# Altium footprint library e-switch-toggle.PcbLib: 1 footprints
Each footprint in its own frame and in the unit in brackets; x right, y up, seen from the top. Pads: shape width x height; smd on the part's side, far side on the other; paste and mask are expansions set on the pad; w line width, h text height; cw(c..) or ccw(c..) is an arc to the next point about the centre after c.
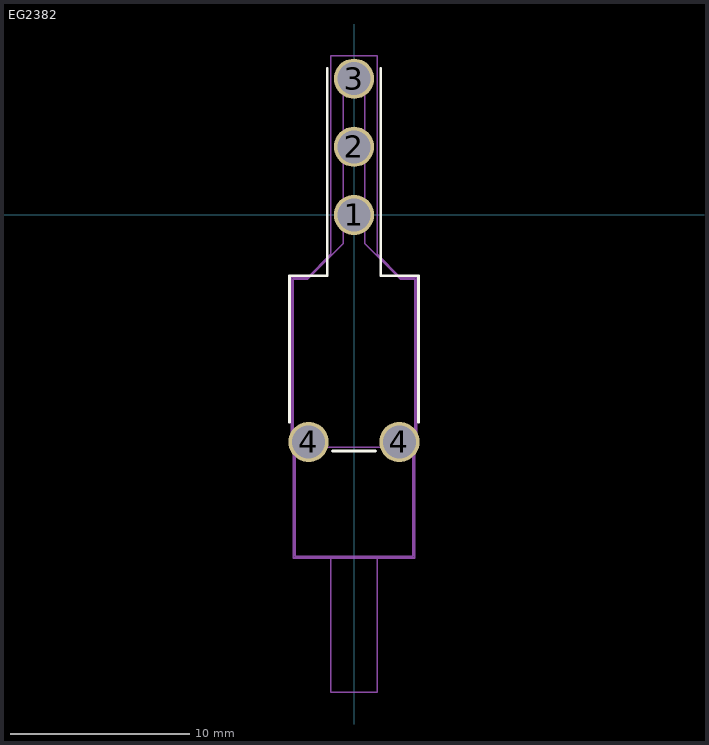
[diagram p0: the footprint, top view; thin cyan lines are the x and y axes]

## EG2382 [mm] "Toggle Swithc - Right Angle - Vertical"
height 12.8
pads (5):
  round 2.25 hole 1.85: 1(0,0) 2(0,3.81) 3(0,7.62) 4(-2.54,-12.7) 4(2.54,-12.7)
Top Overlay:
  lines w0.16: -3.6,-11.6 -3.6,-3.4 -1.5,-3.4 -1.5,8.2 ; -1.2,-13.2 1.2,-13.2 ; 1.5,8.2 1.5,-3.4 3.6,-3.4 3.6,-11.6
Mechanical 13:
  lines w0.1: -3.3,-13 -3.3,-19.1 3.3,-19.1 3.3,-13 ; -1.3,-19.1 -1.3,-26.7 1.3,-26.7 1.3,-19.1 ; -1,0 1,0 ; 0,-1 0,1 ; -3.4,-13 -3.4,-3.6 -2.6,-3.6 -0.6,-1.6 -0.6,8 0.6,8 0.6,-1.6 2.6,-3.6 3.4,-3.6 3.4,-13 -3.4,-13
Mechanical 15:
  lines w0.1: -3.5,-13.1 -3.4,-13.1 -3.4,-19.2 3.4,-19.2 3.4,-13.1 3.5,-13.1 3.5,-3.5 2.6,-3.5 1.3,-2.2 1.3,8.9 -1.3,8.9 -1.3,-2.2 -2.6,-3.5 -3.5,-3.5 -3.5,-13.1
  text ".Designator" at -2.45,0.05 h0.5
3D body: height 12.85, standoff -3.03, extent -3.43,-26.772 3.43,7.971